# Altium footprint library OPTOISOLATOR.PcbLib: 2 footprints
Each footprint in its own frame and in the unit in brackets; x right, y up, seen from the top. Pads: shape width x height; smd on the part's side, far side on the other; paste and mask are expansions set on the pad; w line width, h text height; cw(c..) or ccw(c..) is an arc to the next point about the centre after c.
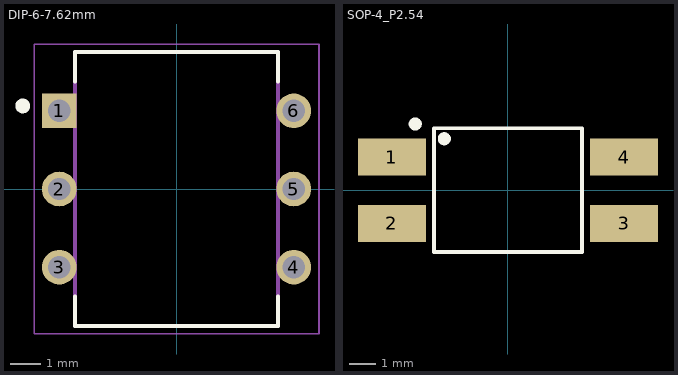
[diagram p0: the footprints below, top view; thin cyan lines are the x and y axes]

## DIP-6-7.62mm [mm]
pads (6):
  rect 1.13x1.13 / inner round 1.13 / far side rect 1.13x1.13 hole 0.73: 1(-3.81,2.54)
  round 1.13 hole 0.73: 2(-3.81,0) 3(-3.81,-2.54) 4(3.81,-2.54) 5(3.81,0) 6(3.81,2.54)
Top Overlay:
  circle w0.24: c-5,2.7 r0.12
  lines w0.127: -3.3,-3.5 -3.3,-4.45 3.3,-4.45 3.3,-3.5 ; -3.3,3.5 -3.3,4.45 3.3,4.45 3.3,3.5
Mechanical 13:
  lines w0.127: -3.3,-4.45 -3.3,4.45 3.3,4.45 3.3,-4.45 -3.3,-4.45
Mechanical 15:
  lines w0.05: -4.63,-4.7 -4.63,4.7 4.63,4.7 4.63,-4.7 -4.63,-4.7
Mechanical 29:
  text "'.Designator'" at -2.921,-0.381 h1.52
3D body "step_temp.STEP": height 5, standoff -3.3, extent -3.94,-3.65 3.94,3.65

## SOP-4_P2.54 [mm]
pads (4):
  rect 2.6x1.422 smd paste+0 mask+0.051: 1(-4.45,1.27) 2(-4.45,-1.27) 3(4.45,-1.27) 4(4.45,1.27)
Top Overlay:
  circle w0.25: c-3.556,2.54 r0.125
  circle w0.25: c-2.443,1.974 r0.125
  lines w0.152: -2.845,-2.376 -2.845,2.376 2.845,2.376 2.845,-2.376 -2.845,-2.376
Mechanical 15:
  circle w0.4: c-4.064,1.27 r0.2
Mechanical 29:
  text "'.Designator'" at -3.175,-0.508 h1.52
3D body "SOP_PC8171_SCT.step": height 3.99, standoff 0, extent -5.131,-2.476 4.877,2.476